# Altium integrated library TEMP_LIB_P01_DESM1210.IntLib: 1 symbol
Pins are listed as number, name and electrical type; pins without a type are passive.

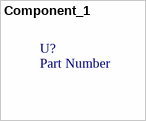
[diagram p0: symbol Component_1]

## Component_1
designator U?, comment Part Number
XXX - Description - Package; GRAMS Lib Spec: 2.7